# Altium schematic symbol library karman_pcb.SCHLIB: 45 symbols
Pins are listed as number, name and electrical type; pins without a type are passive.

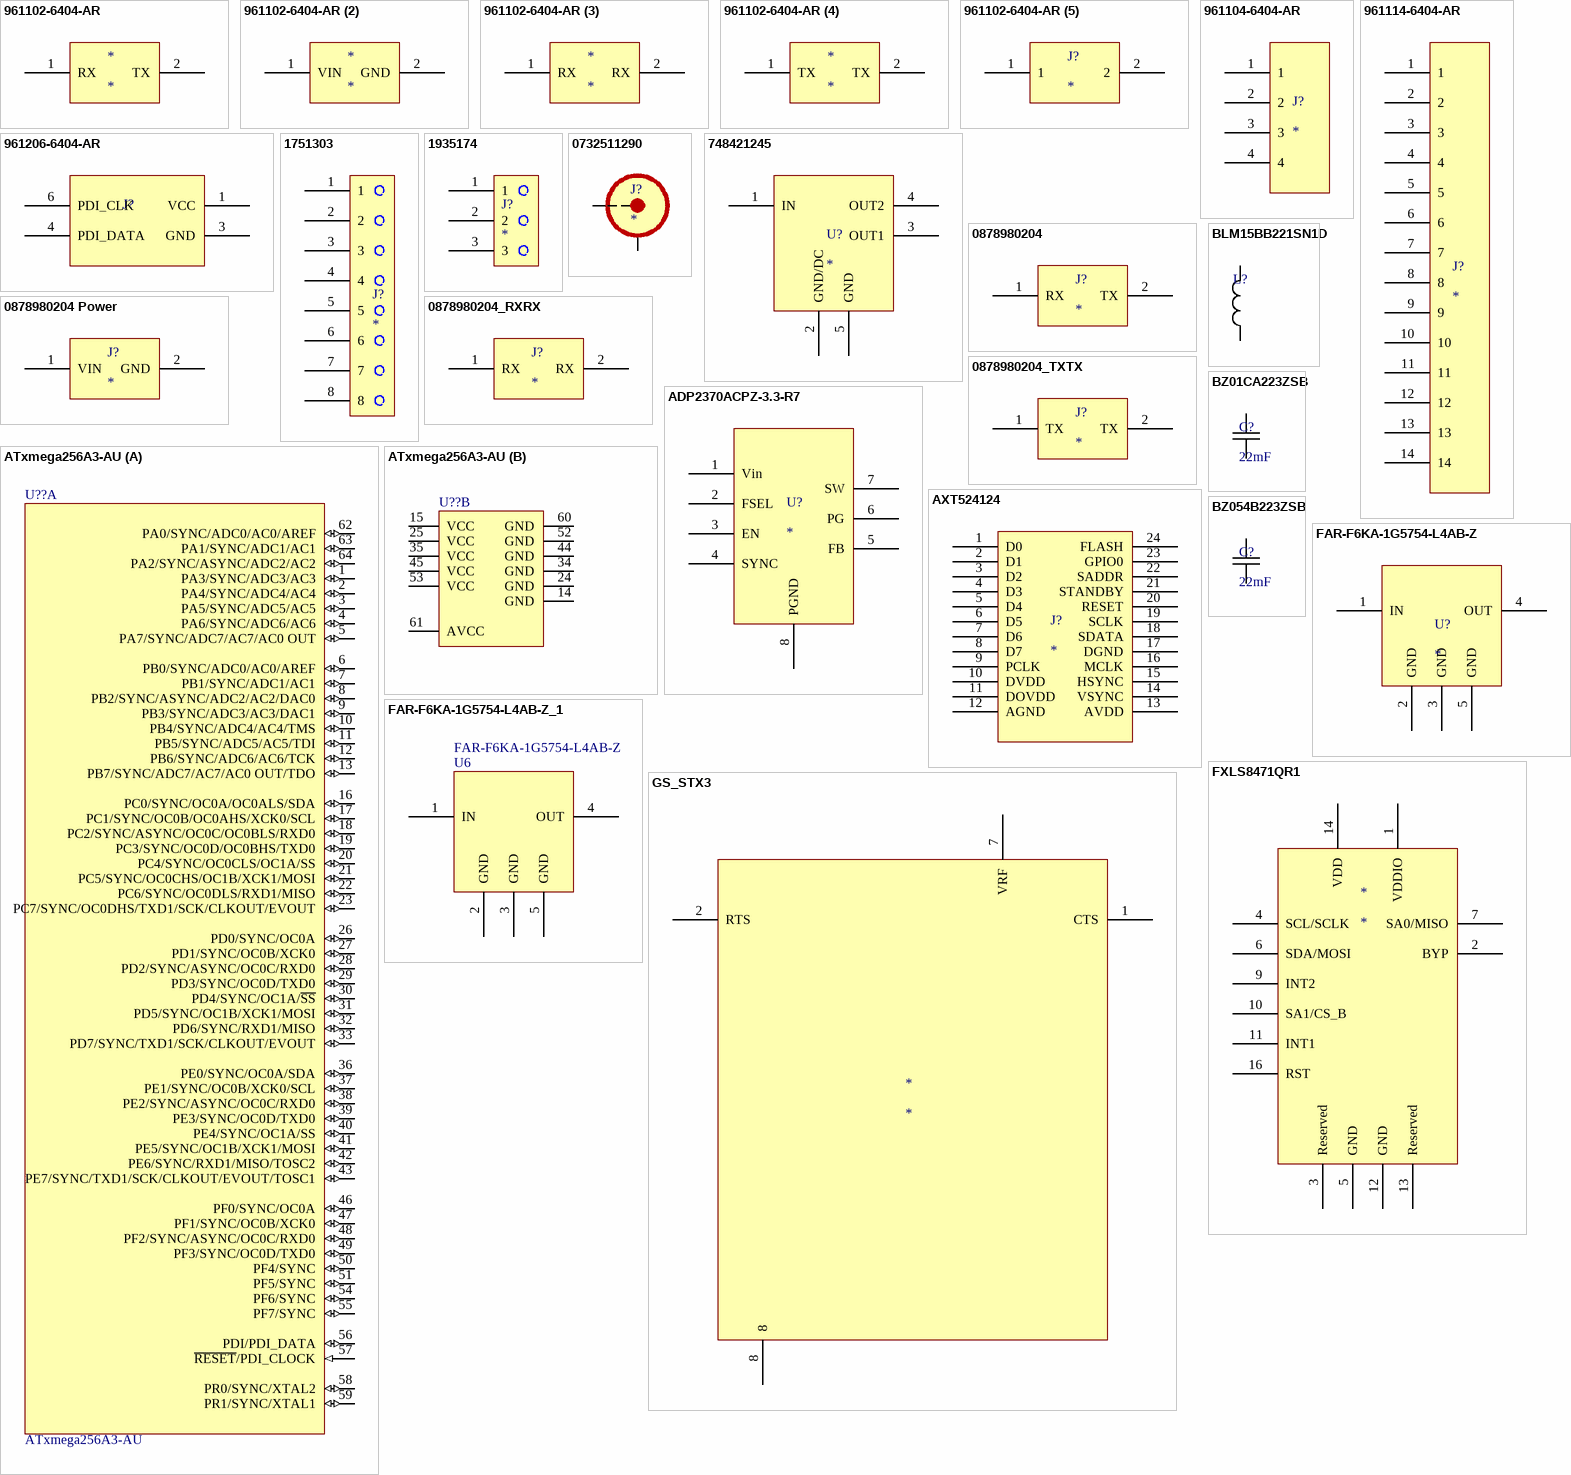
[diagram p0: symbols 961102-6404-AR to GS_STX3]

## 961102-6404-AR
designator *
CONN HEADER VERT SGL 2POS GOLD; Manufacturer: 3M; Manufacturer Part Number: 961102-6404-AR; Connector Type: Header, Unshrouded; Number of Positions: 2; Number of Positions Loaded: All; Pitch: 0.100" (2.54mm); Supplier 1: Digi-Key; RoHS: RoHS Compliant; Category: Connectors, Interconnects; Stock 1: 60000; Pricing 1: 1=0.16, 10=0.15, 25=0.128, 50=0.112, 100=0.104, 250=0.092, 500=0.088, 1000=0.072, 2500=0.066 (USD); Packaging: Bulk; Contact Type: Male Pin; Number of Rows: 1; Row Spacing: -; Contact Mating Length: 0.217" (5.50mm); Mounting Type: Through Hole; Termination: Solder; Fastening Type: -; Features: -; Contact Finish: Gold; Contact Finish Thickness: Flash; Color: Black; ComponentLink1URL: http://multimedia.3m.com/mws/mediawebserver?66666UuZjcFSLXTtNxTElX&VEVuQEcuZgVs6EVs6E666666--; ComponentLink1Description: http://multimedia.3m.com/mws/mediawebserver?66666UuZjcFSLXTtNxTElX&VEVuQEcuZgVs6EVs6E666666--; Supplier Part Number 1: 3M9447-ND
footprint 3M_961102-6X04 (2 Pin Header)
pins: 1 RX, 2 TX

## 961102-6404-AR (2)
designator *
CONN HEADER VERT SGL 2POS GOLD; Manufacturer: 3M; Manufacturer Part Number: 961102-6404-AR; Connector Type: Header, Unshrouded; Number of Positions: 2; Number of Positions Loaded: All; Pitch: 0.100" (2.54mm); Supplier 1: Digi-Key; RoHS: RoHS Compliant; Category: Connectors, Interconnects; Stock 1: 60000; Pricing 1: 1=0.16, 10=0.15, 25=0.128, 50=0.112, 100=0.104, 250=0.092, 500=0.088, 1000=0.072, 2500=0.066 (USD); Packaging: Bulk; Contact Type: Male Pin; Number of Rows: 1; Row Spacing: -; Contact Mating Length: 0.217" (5.50mm); Mounting Type: Through Hole; Termination: Solder; Fastening Type: -; Features: -; Contact Finish: Gold; Contact Finish Thickness: Flash; Color: Black; ComponentLink1URL: http://multimedia.3m.com/mws/mediawebserver?66666UuZjcFSLXTtNxTElX&VEVuQEcuZgVs6EVs6E666666--; ComponentLink1Description: http://multimedia.3m.com/mws/mediawebserver?66666UuZjcFSLXTtNxTElX&VEVuQEcuZgVs6EVs6E666666--; Supplier Part Number 1: 3M9447-ND
pins: 1 VIN, 2 GND

## 961102-6404-AR (3)
designator *
CONN HEADER VERT SGL 2POS GOLD; Manufacturer: 3M; Manufacturer Part Number: 961102-6404-AR; Connector Type: Header, Unshrouded; Number of Positions: 2; Number of Positions Loaded: All; Pitch: 0.100" (2.54mm); Supplier 1: Digi-Key; RoHS: RoHS Compliant; Category: Connectors, Interconnects; Stock 1: 60000; Pricing 1: 1=0.16, 10=0.15, 25=0.128, 50=0.112, 100=0.104, 250=0.092, 500=0.088, 1000=0.072, 2500=0.066 (USD); Packaging: Bulk; Contact Type: Male Pin; Number of Rows: 1; Row Spacing: -; Contact Mating Length: 0.217" (5.50mm); Mounting Type: Through Hole; Termination: Solder; Fastening Type: -; Features: -; Contact Finish: Gold; Contact Finish Thickness: Flash; Color: Black; ComponentLink1URL: http://multimedia.3m.com/mws/mediawebserver?66666UuZjcFSLXTtNxTElX&VEVuQEcuZgVs6EVs6E666666--; ComponentLink1Description: http://multimedia.3m.com/mws/mediawebserver?66666UuZjcFSLXTtNxTElX&VEVuQEcuZgVs6EVs6E666666--; Supplier Part Number 1: 3M9447-ND
pins: 1 RX, 2 RX

## 961102-6404-AR (4)
designator *
CONN HEADER VERT SGL 2POS GOLD; Manufacturer: 3M; Manufacturer Part Number: 961102-6404-AR; Connector Type: Header, Unshrouded; Number of Positions: 2; Number of Positions Loaded: All; Pitch: 0.100" (2.54mm); Supplier 1: Digi-Key; RoHS: RoHS Compliant; Category: Connectors, Interconnects; Stock 1: 60000; Pricing 1: 1=0.16, 10=0.15, 25=0.128, 50=0.112, 100=0.104, 250=0.092, 500=0.088, 1000=0.072, 2500=0.066 (USD); Packaging: Bulk; Contact Type: Male Pin; Number of Rows: 1; Row Spacing: -; Contact Mating Length: 0.217" (5.50mm); Mounting Type: Through Hole; Termination: Solder; Fastening Type: -; Features: -; Contact Finish: Gold; Contact Finish Thickness: Flash; Color: Black; ComponentLink1URL: http://multimedia.3m.com/mws/mediawebserver?66666UuZjcFSLXTtNxTElX&VEVuQEcuZgVs6EVs6E666666--; ComponentLink1Description: http://multimedia.3m.com/mws/mediawebserver?66666UuZjcFSLXTtNxTElX&VEVuQEcuZgVs6EVs6E666666--; Supplier Part Number 1: 3M9447-ND
pins: 1 TX, 2 TX

## 961102-6404-AR (5)
designator J?
CONN HEADER VERT SGL 2POS GOLD; Manufacturer: 3M; Manufacturer Part Number: 961102-6404-AR; Connector Type: Header, Unshrouded; Number of Positions: 2; Number of Positions Loaded: All; Pitch: 0.100" (2.54mm); Supplier 1: Digi-Key; RoHS: RoHS Compliant; Category: Connectors, Interconnects; Stock 1: 60000; Pricing 1: 1=0.16, 10=0.15, 25=0.128, 50=0.112, 100=0.104, 250=0.092, 500=0.088, 1000=0.072, 2500=0.066 (USD); Packaging: Bulk; Contact Type: Male Pin; Number of Rows: 1; Row Spacing: -; Contact Mating Length: 0.217" (5.50mm); Mounting Type: Through Hole; Termination: Solder; Fastening Type: -; Features: -; Contact Finish: Gold; Contact Finish Thickness: Flash; Color: Black; ComponentLink1URL: http://multimedia.3m.com/mws/mediawebserver?66666UuZjcFSLXTtNxTElX&VEVuQEcuZgVs6EVs6E666666--; ComponentLink1Description: http://multimedia.3m.com/mws/mediawebserver?66666UuZjcFSLXTtNxTElX&VEVuQEcuZgVs6EVs6E666666--; Supplier Part Number 1: 3M9447-ND
pins: 1, 2

## 961104-6404-AR
designator J?
CONN HEADER VERT SGL 4POS GOLD; Manufacturer: 3M; Manufacturer Part Number: 961104-6404-AR; Connector Type: Header, Unshrouded; Number of Positions: 4; Number of Positions Loaded: All; Pitch: 0.100" (2.54mm); Supplier 1: Digi-Key; RoHS: RoHS Compliant; Category: Connectors, Interconnects; Stock 1: 17691; Pricing 1: 1=0.33, 10=0.315, 25=0.27, 50=0.2296, 100=0.2205, 250=0.198, 500=0.189, 1000=0.1575, 2500=0.144 (USD); Packaging: Bulk; Contact Type: Male Pin; Number of Rows: 1; Row Spacing: -; Contact Mating Length: 0.217" (5.50mm); Mounting Type: Through Hole; Termination: Solder; Fastening Type: -; Features: -; Contact Finish: Gold; Contact Finish Thickness: Flash; Color: Black; ComponentLink1URL: http://multimedia.3m.com/mws/mediawebserver?66666UuZjcFSLXTtNxTElX&VEVuQEcuZgVs6EVs6E666666--; ComponentLink1Description: http://multimedia.3m.com/mws/mediawebserver?66666UuZjcFSLXTtNxTElX&VEVuQEcuZgVs6EVs6E666666--; Supplier Part Number 1: 3M9449-ND
footprint 961104-6404-AR (3M- 4pos vert header)
pins: 1, 2, 3, 4

## 961114-6404-AR
designator J?
CONN HEADER VERT SGL 14POS GOLD; Manufacturer: 3M; Manufacturer Part Number: 961114-6404-AR; Connector Type: Header, Unshrouded; Number of Positions: 14; Number of Positions Loaded: All; Pitch: 0.100" (2.54mm); Supplier 1: Digi-Key; RoHS: RoHS Compliant; Category: Connectors, Interconnects; Stock 1: 3241; Pricing 1: 1=0.96, 10=0.842, 25=0.792, 50=0.759, 100=0.726, 250=0.66, 500=0.594, 1000=0.528, 2500=0.4785 (USD); Packaging: Bulk; Contact Type: Male Pin; Number of Rows: 1; Row Spacing: -; Contact Mating Length: 0.217" (5.50mm); Mounting Type: Through Hole; Termination: Solder; Fastening Type: -; Features: -; Contact Finish: Gold; Contact Finish Thickness: Flash; Color: Black; ComponentLink1URL: http://multimedia.3m.com/mws/mediawebserver?66666UuZjcFSLXTtNxTElX&VEVuQEcuZgVs6EVs6E666666--; ComponentLink1Description: http://multimedia.3m.com/mws/mediawebserver?66666UuZjcFSLXTtNxTElX&VEVuQEcuZgVs6EVs6E666666--; Supplier Part Number 1: 3M9453-ND
footprint 961114-6404-AR (3M- 14pos vert header)
pins: 1, 2, 3, 4, 5, 6, 7, 8, 9, 10, 11, 12, 13, 14

## 961206-6404-AR
designator J?  (value not drawn)
CONN HEADER VERT DUAL 6POS GOLD; Manufacturer: 3M; Manufacturer Part Number: 961206-6404-AR; Connector Type: Header, Unshrouded; Number of Positions: 6; Number of Positions Loaded: All; Pitch: 0.100" (2.54mm); Supplier 1: Digi-Key; RoHS: RoHS Compliant; Category: Connectors, Interconnects; Stock 1: 8455; Pricing 1: 1=0.42, 10=0.39, 25=0.3512, 50=0.312, 100=0.299, 250=0.273, 500=0.26, 1000=0.2145, 2500=0.195 (USD); Packaging: Bulk; Contact Type: Male Pin; Number of Rows: 2; Row Spacing: 0.100" (2.54mm); Contact Mating Length: 0.217" (5.50mm); Mounting Type: Through Hole; Termination: Solder; Fastening Type: -; Features: -; Contact Finish: Gold; Contact Finish Thickness: Flash; Color: Black; ComponentLink1URL: http://multimedia.3m.com/mws/mediawebserver?66666UuZjcFSLXTtNxTElX&VEVuQEcuZgVs6EVs6E666666--; ComponentLink1Description: http://multimedia.3m.com/mws/mediawebserver?66666UuZjcFSLXTtNxTElX&VEVuQEcuZgVs6EVs6E666666--; Supplier Part Number 1: 3M9459-ND
footprint 961206-6404-AR (3M- 6pos vert 2x3 header)
pins: 1 VCC, 3 GND, 4 PDI_DATA, 6 PDI_CLK

## 1751303
designator J?
CONN TERM BLOCK 8POS 3.5MM; Manufacturer: Phoenix Contact; Manufacturer Part Number: 1751303; Number of Levels: 1; Positions Per Level: 8; Pitch: 0.138" (3.50mm); Mating Orientation: Horizontal with Board; Current: 10A; Voltage: 300V; Wire Gauge: 16-30 AWG; Wire Termination: Screw - Rising Cage Clamp; Torque - Screw: 0.22-0.25 Nm (1.9-2.2 Lb-In); Screw Thread: M2; Supplier 1: Digi-Key; RoHS: RoHS Compliant; Category: Connectors, Interconnects; Stock 1: 1222; Pricing 1: 1=4.43, 10=4.241, 50=4.1254, 100=3.8556, 250=3.54716, 500=3.27726, 1000=3.06181, 2500=2.8728 (USD); Packaging: Bulk; Mounting Type: Through Hole; Features: -; Color: Green; Operating Temperature: -; Housing Material: Polyamide (PA), Nylon; Contact Material - Plating: -; Clamp Material - Plating: -; Screw Material - Plating: -; ComponentLink1URL: http://media.digikey.com/PDF/Data%20Sheets/Phoenix%20Contact%20PDFs/1751303.pdf; ComponentLink1Description: http://media.digikey.com/PDF/Data%20Sheets/Phoenix%20Contact%20PDFs/1751303.pdf; Supplier Part Number 1: 277-5792-ND
footprint 1751303 (TERM BLOCK 8POS 3.5MM)
pins: 1, 2, 3, 4, 5, 6, 7, 8

## 1935174
designator J?
TERM BLOCK PCB 3POS 5.0MM GREEN; Manufacturer: Phoenix Contact; Manufacturer Part Number: 1935174; Number of Levels: 1; Positions Per Level: 3; Pitch: 0.197" (5.00mm); Mating Orientation: Horizontal with Board; Current: 18A; Voltage: 300V; Wire Gauge: 12-26 AWG; Wire Termination: Screw; Torque - Screw: 0.35-0.4 Nm (3.1-3.5 Lb-In); Screw Thread: M2.6; Supplier 1: Digi-Key; RoHS: RoHS Compliant; Category: Connectors, Interconnects; Stock 1: 8560; Pricing 1: 1=0.53, 10=0.506, 50=0.484, 100=0.4708, 250=0.44, 500=0.4048, 1000=0.374 (USD); Packaging: Bulk; Mounting Type: Through Hole; Features: Interlocking (Side); Color: Green; Operating Temperature: -; Housing Material: Polyamide (PA), Nylon; Contact Material - Plating: -; Clamp Material - Plating: -; Screw Material - Plating: -; ComponentLink1URL: http://media.digikey.com/pdf/Data%20Sheets/Phoenix%20Contact%20PDFs/1935174.pdf; ComponentLink1Description: http://media.digikey.com/pdf/Data%20Sheets/Phoenix%20Contact%20PDFs/1935174.pdf; Supplier Part Number 1: 277-1578-ND
pins: 1, 2, 3

## 0732511290
designator J?
CONN SMA JACK EDGE MNT 50 OHM; Manufacturer: Molex, LLC; Manufacturer Part Number: 0732511290; Connector Type: Jack, Female Socket; Contact Termination: Solder; Impedance: 50 Ohm; Frequency - Max: 18GHz; Body Material: Brass; Body Finish: Gold; Center Contact Material: Beryllium Copper; Dielectric Material: Polytetrafluoroethylene (PTFE); Voltage Rating: 500V; Supplier 1: Digi-Key; RoHS: RoHS Compliant; Category: Connectors, Interconnects; Stock 1: 1325; Pricing 1: 1=6.6, 10=6.327, 25=5.7772, 50=5.502, 100=5.2269, 250=4.67672, 500=4.4016, 1000=3.8514, 2500=3.65883 (USD); Packaging: Tray; Connector Style: SMA; Shield Termination: Solder; Mounting Type: Board Edge, End Launch; Panel Mount, Bulkhead; Cable Group: -; Fastening Type: Threaded; Features: -; Housing Color: Gold; Ingress Protection: -; Center Contact Plating: Gold; Operating Temperature: -65°C ~ 165°C; ComponentLink1URL: http://www.molex.com/pdm_docs/sd/732511290_sd.pdf; ComponentLink1Description: http://www.molex.com/pdm_docs/sd/732511290_sd.pdf; Supplier Part Number 1: WM9461-ND
footprint 732511290 (Molex SMA edge mount)
pins: PIN, SHIELD

## 748421245
designator U?
BALUN EMBER351 & 357 0805 SMD; Manufacturer: Wurth Electronics Inc; Manufacturer Part Number: 748421245; Frequency Range: 2.4GHz ~ 2.5GHz; Impedance - Unbalanced/Balanced: 50 / 100 Ohm; Phase Difference: 180° ±10; Insertion Loss (Max): 1.0dB; Supplier 1: Digi-Key; RoHS: RoHS Compliant; Category: RF/IF and RFID; Stock 1: 20266; Pricing 1: 1=2.63, 50=2.3626, 100=2.1875, 500=2.0125, 1000=1.925, 2000=1.8375 (USD); Packaging: Cut Tape (CT); Return Loss (Min): -; Package / Case: 0805 (2012 Metric); Mounting Type: Surface Mount; ComponentLink1URL: http://katalog.we-online.de/pbs/datasheet/748421245.pdf; ComponentLink1Description: http://katalog.we-online.de/pbs/datasheet/748421245.pdf; Supplier Part Number 1: 732-2230-1-ND
footprint 748421245 (WU Balun 748421245)
pins: 1 IN, 2 GND/DC, 3 OUT1, 4 OUT2, 5 GND

## 0878980204
designator J?
CONN BREAKAWAY SMD HDR 2POS; Manufacturer: Molex, LLC; Manufacturer Part Number: 0878980204; Connector Type: Header, Unshrouded, Breakaway; Number of Positions: 2; Number of Positions Loaded: All; Pitch: 0.100" (2.54mm); Supplier 1: Digi-Key; RoHS: RoHS Compliant; Category: Connectors, Interconnects; Stock 1: 4548; Pricing 1: 1=0.47, 10=0.438, 25=0.394, 50=0.3502, 100=0.3356, 250=0.3064, 500=0.2918, 1000=0.24074, 2500=0.21885 (USD); Packaging: Tray; Contact Type: Male Pin; Number of Rows: 1; Row Spacing: -; Contact Mating Length: 0.230" (5.84mm); Mounting Type: Surface Mount; Termination: Solder; Fastening Type: -; Features: -; Contact Finish: Gold; Contact Finish Thickness: 15µin (0.38µm); Color: Black; ComponentLink1URL: http://www.molex.com/pdm_docs/sd/878980204_sd.pdf; ComponentLink1Description: http://www.molex.com/pdm_docs/sd/878980204_sd.pdf; Supplier Part Number 1: WM9852-ND
pins: 1 RX, 2 TX

## 0878980204 Power
designator J?
CONN BREAKAWAY SMD HDR 2POS; Manufacturer: Molex, LLC; Manufacturer Part Number: 0878980204; Connector Type: Header, Unshrouded, Breakaway; Number of Positions: 2; Number of Positions Loaded: All; Pitch: 0.100" (2.54mm); Supplier 1: Digi-Key; RoHS: RoHS Compliant; Category: Connectors, Interconnects; Stock 1: 4806; Pricing 1: 1=0.47, 10=0.438, 25=0.394, 50=0.3502, 100=0.3356, 250=0.3064, 500=0.2918, 1000=0.24074, 2500=0.21885 (USD); Packaging: Tray; Contact Type: Male Pin; Number of Rows: 1; Row Spacing: -; Contact Mating Length: 0.230" (5.84mm); Mounting Type: Surface Mount; Termination: Solder; Fastening Type: -; Features: -; Contact Finish: Gold; Contact Finish Thickness: 15µin (0.38µm); Color: Black; ComponentLink1URL: http://www.molex.com/pdm_docs/sd/878980204_sd.pdf; ComponentLink1Description: http://www.molex.com/pdm_docs/sd/878980204_sd.pdf; Supplier Part Number 1: WM9852-ND
pins: 1 VIN, 2 GND

## 0878980204_RXRX
designator J?
CONN BREAKAWAY SMD HDR 2POS; Manufacturer: Molex, LLC; Manufacturer Part Number: 0878980204; Connector Type: Header, Unshrouded, Breakaway; Number of Positions: 2; Number of Positions Loaded: All; Pitch: 0.100" (2.54mm); Supplier 1: Digi-Key; RoHS: RoHS Compliant; Category: Connectors, Interconnects; Stock 1: 4548; Pricing 1: 1=0.47, 10=0.438, 25=0.394, 50=0.3502, 100=0.3356, 250=0.3064, 500=0.2918, 1000=0.24074, 2500=0.21885 (USD); Packaging: Tray; Contact Type: Male Pin; Number of Rows: 1; Row Spacing: -; Contact Mating Length: 0.230" (5.84mm); Mounting Type: Surface Mount; Termination: Solder; Fastening Type: -; Features: -; Contact Finish: Gold; Contact Finish Thickness: 15µin (0.38µm); Color: Black; ComponentLink1URL: http://www.molex.com/pdm_docs/sd/878980204_sd.pdf; ComponentLink1Description: http://www.molex.com/pdm_docs/sd/878980204_sd.pdf; Supplier Part Number 1: WM9852-ND
pins: 1 RX, 2 RX

## 0878980204_TXTX
designator J?
CONN BREAKAWAY SMD HDR 2POS; Manufacturer: Molex, LLC; Manufacturer Part Number: 0878980204; Connector Type: Header, Unshrouded, Breakaway; Number of Positions: 2; Number of Positions Loaded: All; Pitch: 0.100" (2.54mm); Supplier 1: Digi-Key; RoHS: RoHS Compliant; Category: Connectors, Interconnects; Stock 1: 4548; Pricing 1: 1=0.47, 10=0.438, 25=0.394, 50=0.3502, 100=0.3356, 250=0.3064, 500=0.2918, 1000=0.24074, 2500=0.21885 (USD); Packaging: Tray; Contact Type: Male Pin; Number of Rows: 1; Row Spacing: -; Contact Mating Length: 0.230" (5.84mm); Mounting Type: Surface Mount; Termination: Solder; Fastening Type: -; Features: -; Contact Finish: Gold; Contact Finish Thickness: 15µin (0.38µm); Color: Black; ComponentLink1URL: http://www.molex.com/pdm_docs/sd/878980204_sd.pdf; ComponentLink1Description: http://www.molex.com/pdm_docs/sd/878980204_sd.pdf; Supplier Part Number 1: WM9852-ND
pins: 1 TX, 2 TX

## ADP2370ACPZ-3.3-R7
designator U?
IC REG BCK 3.3V 0.8A SYNC 8LFCSP; Manufacturer: Analog Devices Inc.; Manufacturer Part Number: ADP2370ACPZ-3.3-R7; Function: Step-Down; Output Configuration: Positive; Topology: Buck; Output Type: Fixed; Number of Outputs: 1; Voltage - Input (Min): 3.2V; Voltage - Input (Max): 15V; Current - Output: 800mA; Frequency - Switching: 600kHz ~ 1.2MHz; Synchronous Rectifier: Yes; Supplier 1: Digi-Key; RoHS: RoHS Compliant; Category: Integrated Circuits (ICs); Stock 1: 1716; Pricing 1: 1=3.63, 10=3.259, 100=2.6733, 500=2.2743 (USD); Packaging: Cut Tape (CT); Voltage - Output (Min/Fixed): 3.3V; Voltage - Output (Max): -; Operating Temperature: -40°C ~ 85°C (TA); Mounting Type: Surface Mount; Package / Case: 8-WFDFN Exposed Pad, CSP; Supplier Device Package: 8-LFCSP-WD (3x3); ComponentLink1URL: http://www.analog.com/media/en/technical-documentation/data-sheets/ADP2370_2371.pdf; ComponentLink1Description: http://www.analog.com/media/en/technical-documentation/data-sheets/ADP2370_2371.pdf; Supplier Part Number 1: ADP2370ACPZ-3.3-R7CT-ND
pins: 1 Vin, 2 FSEL, 3 EN, 4 SYNC, 5 FB, 6 PG, 7 SW, 8 PGND

## ATxmega256A3-AU
designator U??
8/16-bit AVR XMEGA A3 Microcontroller, 1.6-3.6V, 256KB + 8KB Flash, 4KB EEPROM, 16KB SRAM, 64-pin TQFP, Industrial Grade (-40°C to 85°C), Pb-Free; Published: 1-Apr-2010; DatasheetVersion: revQ, Feb-2010; PackageVersion: revB, Oct-2001; PackageReference: 64A; Publisher: Altium Limited; PackageDescription: 64-Pin Plastic Thin Profile Quad Flat Pack, 14 x 14 x 1.0 mm Body, 0.8 mm Pitch (TQFP); Supplier 1: Digi-Key; Supplier Part Number 1: ATXMEGA256A3-AU-ND; Supplier 2: Farnell; Supplier Part Number 2: 1748554; Supplier 3: Mouser; Supplier Part Number 3: 556-ATXMEGA256A3-AU; Code_JEDEC: MS-026-AEB; ComponentLink1Description: Manufacturer Link; ComponentLink1URL: http://www.atmel.com/products/avr/default.asp?; ComponentLink2Description: ATxmega64A3/128A3/192A3/256A3 Datasheet; ComponentLink2URL: http://www.atmel.com/dyn/resources/prod_documents/doc8068.pdf; ComponentLink3Description: Atmel.com Home; ComponentLink3URL: http://www.atmel.com
footprint 64A_N (Thin QFP, 64-Leads, Body 14x14mm, Pitch 0.8mm, IPC Medium Density)
footprint 64A_L (Thin QFP, 64-Leads, Body 14x14mm, Pitch 0.8mm, IPC High Density)
footprint 64A_M (Thin QFP, 64-Leads, Body 14x14mm, Pitch 0.8mm, IPC Low Density)
part A pins: 1 PA3/SYNC/ADC3/AC3 (io), 2 PA4/SYNC/ADC4/AC4 (io), 3 PA5/SYNC/ADC5/AC5 (io), 4 PA6/SYNC/ADC6/AC6 (io), 5 PA7/SYNC/ADC7/AC7/AC0 OUT (io), 6 PB0/SYNC/ADC0/AC0/AREF (io), 7 PB1/SYNC/ADC1/AC1 (io), 8 PB2/SYNC/ASYNC/ADC2/AC2/DAC0 (io), 9 PB3/SYNC/ADC3/AC3/DAC1 (io), 10 PB4/SYNC/ADC4/AC4/TMS (io), 11 PB5/SYNC/ADC5/AC5/TDI (io), 12 PB6/SYNC/ADC6/AC6/TCK (io), 13 PB7/SYNC/ADC7/AC7/AC0 OUT/TDO (io), 16 PC0/SYNC/OC0A/OC0ALS/SDA (io), 17 PC1/SYNC/OC0B/OC0AHS/XCK0/SCL (io), 18 PC2/SYNC/ASYNC/OC0C/OC0BLS/RXD0 (io), 19 PC3/SYNC/OC0D/OC0BHS/TXD0 (io), 20 PC4/SYNC/OC0CLS/OC1A/SS (io), 21 PC5/SYNC/OC0CHS/OC1B/XCK1/MOSI (io), 22 PC6/SYNC/OC0DLS/RXD1/MISO (io), 23 PC7/SYNC/OC0DHS/TXD1/SCK/CLKOUT/EVOUT (io), 26 PD0/SYNC/OC0A (io), 27 PD1/SYNC/OC0B/XCK0 (io), 28 PD2/SYNC/ASYNC/OC0C/RXD0 (io), 29 PD3/SYNC/OC0D/TXD0 (io), 30 PD4/SYNC/OC1A/~{SS} (io), 31 PD5/SYNC/OC1B/XCK1/MOSI (io), 32 PD6/SYNC/RXD1/MISO (io), 33 PD7/SYNC/TXD1/SCK/CLKOUT/EVOUT (io), 36 PE0/SYNC/OC0A/SDA (io), 37 PE1/SYNC/OC0B/XCK0/SCL (io), 38 PE2/SYNC/ASYNC/OC0C/RXD0 (io), 39 PE3/SYNC/OC0D/TXD0 (io), 40 PE4/SYNC/OC1A/SS (io), 41 PE5/SYNC/OC1B/XCK1/MOSI (io), 42 PE6/SYNC/RXD1/MISO/TOSC2 (io), 43 PE7/SYNC/TXD1/SCK/CLKOUT/EVOUT/TOSC1 (io), 46 PF0/SYNC/OC0A (io), 47 PF1/SYNC/OC0B/XCK0 (io), 48 PF2/SYNC/ASYNC/OC0C/RXD0 (io), 49 PF3/SYNC/OC0D/TXD0 (io), 50 PF4/SYNC (io), 51 PF5/SYNC (io), 54 PF6/SYNC (io), 55 PF7/SYNC (io), 56 PDI/PDI_DATA (io), 57 ~{RESET}/PDI_CLOCK (in), 58 PR0/SYNC/XTAL2 (io), 59 PR1/SYNC/XTAL1 (io), 62 PA0/SYNC/ADC0/AC0/AREF (io), 63 PA1/SYNC/ADC1/AC1 (io), 64 PA2/SYNC/ASYNC/ADC2/AC2 (io)
part B pins: 14 GND (power), 15 VCC (power), 24 GND (power), 25 VCC (power), 34 GND (power), 35 VCC (power), 44 GND (power), 45 VCC (power), 52 GND (power), 53 VCC (power), 60 GND (power), 61 AVCC (power)

## AXT524124
designator J?
CONN SOCKET F4S .4MM 24POS SMD; Manufacturer: Panasonic Electric Works; Manufacturer Part Number: AXT524124; Connector Type: Socket, Outer Shroud Contacts; Number of Positions: 24; Pitch: 0.016" (0.40mm); Mated Stacking Heights: 1mm; Supplier 1: Digi-Key; RoHS: RoHS Compliant; Category: Connectors, Interconnects; Stock 1: 1416; Pricing 1: 1=2.29, 10=1.901, 100=1.408, 250=1.2352, 500=1.1264 (USD); Packaging: Cut Tape (CT); Number of Rows: 2; Mounting Type: Surface Mount; Features: Solder Retention; Contact Finish: Gold; Contact Finish Thickness: -; Height Above Board: 0.038" (0.97mm); ComponentLink1URL: http://www3.panasonic.biz/ac/e_download/control/connector/base-fpc/catalog/con_eng_f4s.pdf; ComponentLink1Description: http://www3.panasonic.biz/ac/e_download/control/connector/base-fpc/catalog/con_eng_f4s.pdf; Supplier Part Number 1: 255-2411-1-ND
footprint AXT524124 (panasonic 24 pos header)
pins: 1 D0, 2 D1, 3 D2, 4 D3, 5 D4, 6 D5, 7 D6, 8 D7, 9 PCLK, 10 DVDD, 11 DOVDD, 12 AGND, 13 AVDD, 14 VSYNC, 15 HSYNC, 16 MCLK, 17 DGND, 18 SDATA, 19 SCLK, 20 RESET, 21 STANDBY, 22 SADDR, 23 GPIO0, 24 FLASH

## BLM15BB221SN1D
designator L?  (value not drawn)
FERRITE CHIP 220 OHM 200MA 0402; Manufacturer: Murata Electronics North America; Impedance @ Frequency: 220 Ohm @ 100MHz; DC Resistance (DCR): 800 mOhm Max; Filter Type: Differential Mode - Single; Supplier 1: Digi-Key; Manufacturer Part Number: BLM15BB221SN1D; RoHS: RoHS Compliant; Category: Filters; Stock 1: 37626; Pricing 1: 1=0.1, 10=0.083, 50=0.0544, 100=0.047, 250=0.03712, 500=0.03136, 1000=0.0264, 5000=0.02351 (USD); Packaging: Cut Tape (CT); Current Rating: 200mA; Package / Case: 0402 (1005 Metric); Mounting Type: Surface Mount; Height (Max): 0.022" (0.55mm); Size / Dimension: 0.039" L x 0.020" W (1.00mm x 0.50mm); ComponentLink1URL: http://search.murata.co.jp/Ceramy/image/img/PDF/ENG/L0110S0100BLM15B.pdf; ComponentLink1Description: http://search.murata.co.jp/Ceramy/image/img/PDF/ENG/L0110S0100BLM15B.pdf; Supplier Part Number 1: 490-5190-1-ND
footprint BLM15 (Chip Ferrite Bead, 0402)
pins: 1, 2

## BZ01CA223ZSB
designator C?, comment 22mF
CAP 22MF -20% +80% 12V SMD; Manufacturer: AVX Corporation; Manufacturer Part Number: BZ01CA223ZSB; Tolerance: -20%, +80%; ESR (Equivalent Series Resistance): 350 mOhm; Lifetime @ Temp.: 1000 Hrs @ 70°C; Supplier 1: Digi-Key; RoHS: RoHS Compliant; Category: Capacitors; Stock 1: 220; Pricing 1: 1=15, 10=14.25, 100=11.25, 250=10.5, 500=9.975, 1000=9.375, 5000=9 (USD); Packaging: Tray; Capacitance: 22mF; Voltage - Rated: 12V; Termination: Solder Pads; Mounting Type: Surface Mount; Package / Case: BZ01, 3 Lead; Lead Spacing: -; Size / Dimension: 1.102" L x 0.669" W (28.00mm x 17.00mm); Height - Seated (Max): 0.299" (7.60mm); Operating Temperature: -20°C ~ 70°C; ComponentLink1URL: http://www.avx.com/docs/catalogs/bestcap.pdf; ComponentLink1Description: http://www.avx.com/docs/catalogs/bestcap.pdf; Supplier Part Number 1: 478-3523-ND
footprint AVX_BZ01 (AVX BZ01 Supercapacitor, 3-Leads)
pins: 1, 2

## BZ054B223ZSB
designator C?, comment 22mF
CAP 22MF -20% +80% 4.5V SMD; Manufacturer: AVX Corporation; Manufacturer Part Number: BZ054B223ZSB; Tolerance: -20%, +80%; ESR (Equivalent Series Resistance): 170 mOhm; Lifetime @ Temp.: 1000 Hrs @ 70°C; Supplier 1: Digi-Key; RoHS: RoHS Compliant; Category: Capacitors; Stock 1: 0; Pricing 1: 1000=5.4825 (USD); Packaging: Tray; Capacitance: 22mF; Voltage - Rated: 4.5V; Termination: Solder Tab (s); Mounting Type: Surface Mount; Package / Case: BZ05, 3 Lead; Lead Spacing: -; Size / Dimension: 0.787" L x 0.591" W (20.00mm x 15.00mm); Height - Seated (Max): 0.083" (2.10mm); Operating Temperature: -20°C ~ 70°C; ComponentLink1URL: http://www.avx.com/docs/catalogs/bestcap.pdf; ComponentLink1Description: http://www.avx.com/docs/catalogs/bestcap.pdf; Supplier Part Number 1: 478-3519-ND
pins: 1, 2

## FAR-F6KA-1G5754-L4AB-Z
designator U?
FILTER SAW 1.5754GHZ GPS SMD; Manufacturer: Taiyo Yuden; Manufacturer Part Number: FAR-F6KA-1G5754-L4AB-Z; Frequency: 1.575GHz Center; Bandwidth: 2MHz; Filter Type: Band Pass; Insertion Loss: 0.44dB; Supplier 1: Digi-Key; RoHS: RoHS Compliant; Category: Filters; Stock 1: 8970; Pricing 1: 1=0.54, 10=0.512, 25=0.4952, 50=0.4042, 100=0.363, 250=0.33, 500=0.3135, 1000=0.2805 (USD); Packaging: Cut Tape (CT); Applications: GPS; Package / Case: 5-SMD, No Lead; Mounting Type: Surface Mount; Height (Max): 0.020" (0.50mm); Size / Dimension: 0.055" L x 0.039" W (1.40mm x 1.00mm); ComponentLink1URL: http://www.yuden.co.jp/productdata/sheet/L4AB.pdf; ComponentLink1Description: http://www.yuden.co.jp/productdata/sheet/L4AB.pdf; Supplier Part Number 1: 587-2995-1-ND
footprint TY_FAR-F6KA-1G5754-L4AB (Taiyo Yuden Saw Filter)
pins: 1 IN, 2 GND, 3 GND, 4 OUT, 5 GND

## FAR-F6KA-1G5754-L4AB-Z_1
designator U6, comment FAR-F6KA-1G5754-L4AB-Z
FILTER SAW 1.5754GHZ GPS SMD; Manufacturer: Taiyo Yuden; Frequency: 1.575GHz Center; Bandwidth: 2MHz; Filter Type: Band Pass; Insertion Loss: 0.44dB; Supplier 1: Digi-Key; Manufacturer Part Number: FAR-F6KA-1G5754-L4AB-Z; RoHS: RoHS Compliant; Category: Filters; Stock 1: 8970; Pricing 1: 1=0.54, 10=0.512, 25=0.4952, 50=0.4042, 100=0.363, 250=0.33, 500=0.3135, 1000=0.2805 (USD); Packaging: Cut Tape (CT); Applications: GPS; Package / Case: 5-SMD, No Lead; Mounting Type: Surface Mount; Height (Max): 0.020" (0.50mm); Size / Dimension: 0.055" L x 0.039" W (1.40mm x 1.00mm); ComponentLink1URL: http://www.yuden.co.jp/productdata/sheet/L4AB.pdf; ComponentLink1Description: http://www.yuden.co.jp/productdata/sheet/L4AB.pdf; Supplier Part Number 1: 587-2995-1-ND
footprint TY_FAR-F6KA-1G5754-L4AB (Taiyo Yuden Saw Filter)
pins: 1 IN, 2 GND, 3 GND, 4 OUT, 5 GND

## FXLS8471QR1
designator *
ACCELEROMETER LOW G 3-AXIS DFN; Manufacturer: Freescale Semiconductor; Manufacturer Part Number: FXLS8471QR1; Axis: X, Y, Z; Acceleration Range: ±2g, 4g, 8g; Voltage - Supply: 1.95 V ~ 3.6 V; Output Type: SPI; Bandwidth: 1.5kHz; Interface: I²C, SPI; Supplier 1: Digi-Key; RoHS: RoHS Compliant; Category: Sensors, Transducers; Stock 1: 2987; Pricing 1: 1=1.99, 10=1.775, 25=1.6684, 100=1.5975, 250=1.52652, 500=1.42 (USD); Packaging: Cut Tape (CT); Sensitivity: -; Mounting Type: Surface Mount; Package / Case: 16-VFQFN; Supplier Device Package: 16-QFN (3x3); ComponentLink1URL: http://cache.freescale.com/files/sensors/doc/data_sheet/FXLS8471Q.pdf; ComponentLink1Description: http://cache.freescale.com/files/sensors/doc/data_sheet/FXLS8471Q.pdf; Supplier Part Number 1: FXLS8471QR1CT-ND
footprint 3 FXLS8471QR1
pins: 1 VDDIO, 2 BYP, 3 Reserved, 4 SCL/SCLK, 5 GND, 6 SDA/MOSI, 7 SA0/MISO, 8 N/C hidden, 9 INT2, 10 SA1/CS_B, 11 INT1, 12 GND, 13 Reserved, 14 VDD, 15 N/C hidden, 16 RST

## GS_STX3
designator *
pins: 1 CTS, 2 RTS, 7 VRF, 8

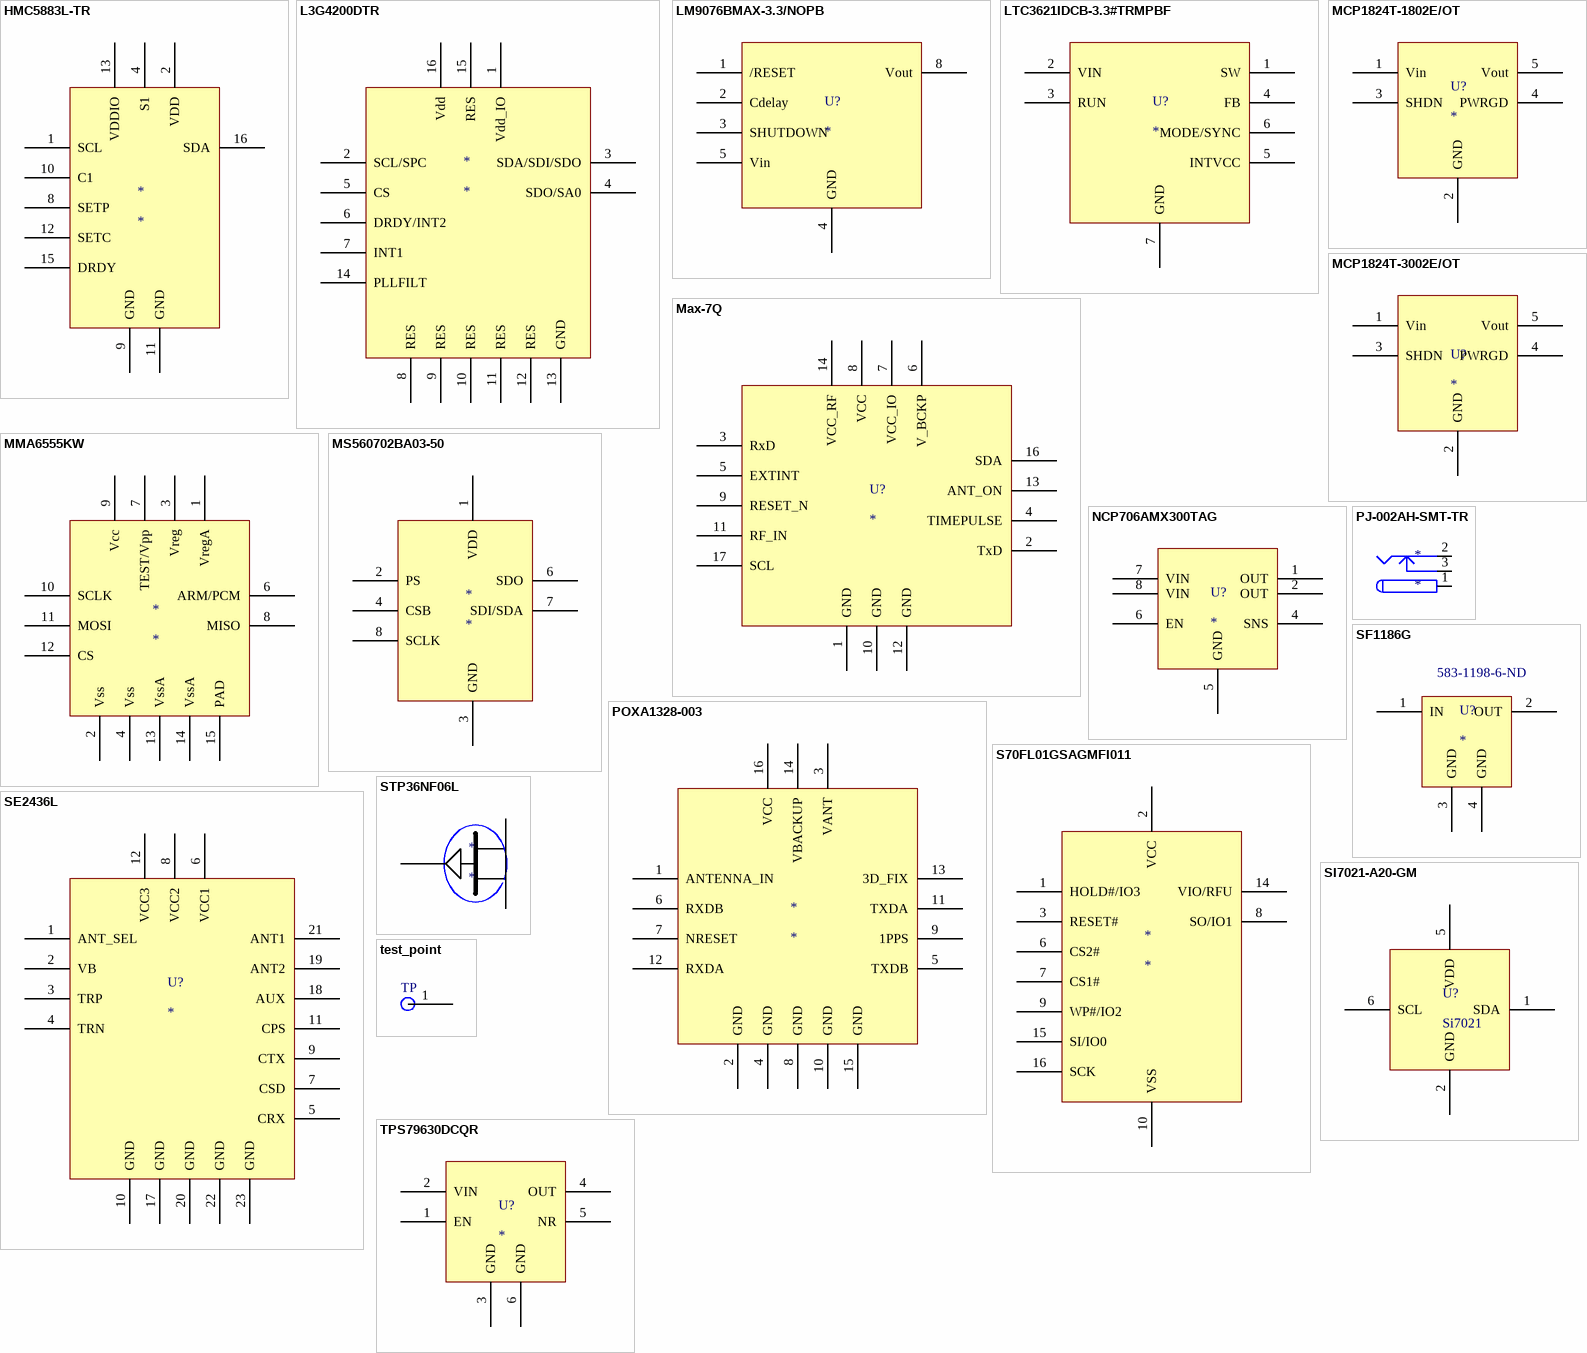
[diagram p1: symbols HMC5883L-TR to TPS79630DCQR]

## HMC5883L-TR
designator *
IC COMPASS 3 AXIS I2C 16LCC SMD; Manufacturer: Honeywell Microelectronics & Precision Sensors; Manufacturer Part Number: HMC5883L-TR; Sensing Range: ±8G; Voltage - Supply: 2.16 V ~ 3.6 V; Current - Supply: 100µA; Output Type: I²C; Supplier 1: Digi-Key; RoHS: RoHS Compliant; Category: Sensors, Transducers; Stock 1: 15448; Pricing 1: 1=3.3, 10=2.258, 25=2.0316, 50=1.902, 100=1.7963, 250=1.683, 500=1.6104, 1000=1.5477 (USD); Packaging: Cut Tape (CT); Type: Compass - Three Axis; Current - Output (Max): -; Features: Compass - Three Axis; Operating Temperature: -30°C ~ 85°C; Package / Case: 16-LCC; Supplier Device Package: 16-LCC; ComponentLink1URL: http://www51.honeywell.com/aero/common/documents/myaerospacecatalog-documents/Defense_Brochures-documents/HMC5883L_3-Axis_Digital_Compass_IC.pdf; ComponentLink1Description: http://www51.honeywell.com/aero/common/documents/myaerospacecatalog-documents/Defense_Brochures-documents/HMC5883L_3-Axis_Digital_Compass_IC.pdf; Supplier Part Number 1: 342-1082-1-ND
footprint 5 HMC5883L-TR (QFN, 16-Leads, Body 3.00x3.00mm, Pitch 0.50mm, IPC Low Density)
pins: 1 SCL, 2 VDD, 4 S1, 8 SETP, 9 GND, 10 C1, 11 GND, 12 SETC, 13 VDDIO, 15 DRDY, 16 SDA

## L3G4200DTR
designator *
IC GYROSCOPE MEMS 3AXIS LP 16LGA; Manufacturer: STMicroelectronics; Manufacturer Part Number: L3G4200DTR; Range °/s: ±250°/s, ±500°/s, ±2000°/s; Sensitivity: 70m°/s, 17.5m°/s, 8.75m°/s; Typical Bandwidth: 800Hz, 400Hz, 200Hz, 100Hz; Voltage - Supply: 2.4 V ~ 3.6 V; Current - Supply: 6.1mA; Output Type: I²C, SPI; Supplier 1: Digi-Key; RoHS: RoHS Compliant; Category: Sensors, Transducers; Stock 1: 5355; Pricing 1: 1=5.28, 10=4.25, 100=3.77, 250=3.48, 500=3.13, 1000=2.64001 (USD); Operating Temperature: -40°C ~ 85°C; Package / Case: 16-TFLGA; Supplier Device Package: 16-LGA (4x4); ComponentLink1URL: http://www.st.com/web/en/resource/technical/document/datasheet/CD00265057.pdf; ComponentLink1Description: http://www.st.com/web/en/resource/technical/document/datasheet/CD00265057.pdf; Supplier Part Number 1: 497-11071-1-ND
footprint 4 L3G4200D (QFN, 16-Leads, Body 4.00x4.00mm, Pitch 0.65mm, IPC Low Density)
pins: 1 Vdd_IO, 2 SCL/SPC, 3 SDA/SDI/SDO, 4 SDO/SA0, 5 CS, 6 DRDY/INT2, 7 INT1, 8 RES, 9 RES, 10 RES, 11 RES, 12 RES, 13 GND, 14 PLLFILT, 15 RES, 16 Vdd

## LM9076BMAX-3.3/NOPB
designator U?
IC REG LDO 3.3V 0.15A 8SOIC; Manufacturer: Texas Instruments; Manufacturer Part Number: LM9076BMAX-3.3/NOPB; Regulator Topology: Positive Fixed; Current - Output: 150mA; Voltage - Dropout (Typical): 0.15V @ 150mA; Number of Regulators: 1; Voltage - Input: 5.35 V ~ 40 V; Supplier 1: Digi-Key; RoHS: RoHS Compliant; Category: Integrated Circuits (ICs); Stock 1: 0; Pricing 1: 2500=0.878 (USD); Packaging: Tape & Reel (TR); Voltage - Output: 3.3V; Current - Limit (Min): -; Operating Temperature: -40°C ~ 125°C; Mounting Type: Surface Mount; Package / Case: 8-SOIC (0.154", 3.90mm Width); Supplier Device Package: 8-SOIC; ComponentLink1URL: http://www.ti.com/lit/ds/symlink/lm9076.pdf; ComponentLink1Description: http://www.ti.com/lit/ds/symlink/lm9076.pdf; Supplier Part Number 1: LM9076BMAX-3.3/NOPBTR-ND
pins: 1 /RESET, 2 Cdelay, 3 SHUTDOWN, 4 GND, 5 Vin, 8 Vout

## LTC3621IDCB-3.3#TRMPBF
designator U?
IC REG BUCK 3.3V 1A SYNC 6DFN; Manufacturer: Linear Technology; Manufacturer Part Number: LTC3621IDCB-3.3#TRMPBF; Function: Step-Down; Output Configuration: Positive; Output Type: Fixed; Number of Outputs: 1; Voltage - Input (Min): 2.7V; Voltage - Input (Max): 17V; Frequency - Switching: 1MHz; Synchronous Rectifier: Yes; Supplier 1: Digi-Key; RoHS: RoHS Compliant; Category: Integrated Circuits (ICs); Stock 1: 490; Pricing 1: 1=6.84, 25=6.1052, 100=5.4948 (USD); Packaging: Cut Tape (CT); Topology: Buck; Voltage - Output (Min/Fixed): 3.3V; Voltage - Output (Max): -; Current - Output: 1A; Operating Temperature: -40°C ~ 125°C (TJ); Mounting Type: Surface Mount; Package / Case: 6-WFDFN Exposed Pad; Supplier Device Package: 6-DFN (2x3); ComponentLink1URL: http://www.linear.com/docs/42954; ComponentLink1Description: http://www.linear.com/docs/42954; Supplier Part Number 1: LTC3621IDCB-3.3#TRMPBFCT-ND
footprint 29 LTC3621IDCB-3.3 (SON, 6-Leads, Body 2.00x3.00mm, Pitch 0.50mm, Thermal Pad 1.35x1.65mm, IPC Low Density)
pins: 1 SW, 2 VIN, 3 RUN, 4 FB, 5 INTVCC, 6 MODE/SYNC, 7 GND

## Max-7Q
designator U?
MAX-7Q ublox GPS chip
footprint 11 MAX-7Q (LCC, 18-Pins, Body 9.70x10.35mmx2.70mm, Pitch 1.10mm, IPC Low Density)
pins: 1 GND, 2 TxD, 3 RxD, 4 TIMEPULSE, 5 EXTINT, 6 V_BCKP, 7 VCC_IO, 8 VCC, 9 RESET_N, 10 GND, 11 RF_IN, 12 GND, 13 ANT_ON, 14 VCC_RF, 16 SDA, 17 SCL

## MCP1824T-1802E/OT
designator U?
IC REG LDO 1.8V 0.3A SOT23-5; Manufacturer: Microchip Technology; Manufacturer Part Number: MCP1824T-1802E/OT; Regulator Topology: Positive Fixed; Current - Output: 300mA; Voltage - Dropout (Typical): 0.2V @ 300mA; Number of Regulators: 1; Voltage - Input: 2.1 V ~ 6 V; Supplier 1: Digi-Key; RoHS: RoHS Compliant; Category: Integrated Circuits (ICs); Stock 1: 10644; Pricing 1: 1=0.5, 10=0.42, 25=0.35, 100=0.32 (USD); Packaging: Cut Tape (CT); Voltage - Output: 1.8V; Current - Limit (Min): -; Operating Temperature: -40°C ~ 125°C; Mounting Type: Surface Mount; Package / Case: SC-74A, SOT-753; Supplier Device Package: SOT-23-5; ComponentLink1URL: http://www.microchip.com/mymicrochip/filehandler.aspx?ddocname=en533257; ComponentLink1Description: http://www.microchip.com/mymicrochip/filehandler.aspx?ddocname=en533257; Supplier Part Number 1: MCP1824T-1802E/OTCT-ND
footprint 26-27 MCP1824T(-3002E/OT)(-1802E/OT) (SOT23, 5-Leads, Body 2.90x2.70mm, Pitch 0.95mm, IPC Low Density)
pins: 1 Vin, 2 GND, 3 SHDN, 4 PWRGD, 5 Vout

## MCP1824T-3002E/OT
designator U?
IC REG LDO 3V 0.3A SOT23-5; Manufacturer: Microchip Technology; Manufacturer Part Number: MCP1824T-3002E/OT; Regulator Topology: Positive Fixed; Current - Output: 300mA; Voltage - Dropout (Typical): 0.2V @ 300mA; Number of Regulators: 1; Voltage - Input: Up to 6V; Supplier 1: Digi-Key; RoHS: RoHS Compliant; Category: Integrated Circuits (ICs); Stock 1: 1155; Pricing 1: 1=0.5, 10=0.42, 25=0.35, 100=0.32 (USD); Packaging: Cut Tape (CT); Voltage - Output: 3V; Current - Limit (Min): -; Operating Temperature: -40°C ~ 125°C; Mounting Type: Surface Mount; Package / Case: SC-74A, SOT-753; Supplier Device Package: SOT-23-5; ComponentLink1URL: http://www.microchip.com/mymicrochip/filehandler.aspx?ddocname=en533257; ComponentLink1Description: http://www.microchip.com/mymicrochip/filehandler.aspx?ddocname=en533257; Supplier Part Number 1: MCP1824T-3002E/OTCT-ND
footprint 26-27 MCP1824T(-3002E/OT)(-1802E/OT) (SOT23, 5-Leads, Body 2.90x2.70mm, Pitch 0.95mm, IPC Low Density)
pins: 1 Vin, 2 GND, 3 SHDN, 4 PWRGD, 5 Vout

## MMA6555KW
designator *
Accelerometers X-AXIS 100G; Manufacturer: Freescale Semiconductor; Manufacturer Part Number: MMA6555KW; Output Type: Digital; Resolution: 12 bit; Sensitivity: 18.2 LSB/g; Acceleration: 105 g; Interface Type: SPI; Sensing Axis: Single; Operating Supply Current: 7 mA; Supply Voltage - Max: 5 V; Supply Voltage - Min: 3.3 V; Supplier 1: Mouser; RoHS: RoHS Compliant By Exemption; Category: Accelerometers; Stock 1: 207; Pricing 1: 1=9.30, 10=8.78, 25=8.26, 100=6.19 (AUD); Package / Case: QFN-16; Packaging: Tube; Series: MMA65xx; Brand: Freescale Semiconductor; Standard Pack Qty: 75; RoHS - Mouser: E; Minimum Order Quantity: 1; Reeling: False; ComponentLink1URL: http://www.mouser.com/ds/2/161/MMA655x-482708.pdf; ComponentLink1Description: http://www.mouser.com/ds/2/161/MMA655x-482708.pdf; Supplier Part Number 1: 841-MMA6555KW
footprint 6 MMA6555KW (QFN, 16-Leads, Body 6.00x6.00mm, Pitch 1.00mm, Thermal Pad 4.00x4.00mm, IPC Low Density)
pins: 1 VregA, 2 Vss, 3 Vreg, 4 Vss, 6 ARM/PCM, 7 TEST/Vpp, 8 MISO, 9 Vcc, 10 SCLK, 11 MOSI, 12 CS, 13 VssA, 14 VssA, 15 PAD

## MS560702BA03-50
designator *
BAROMETRIC PRESSURE SENSOR; Manufacturer: TE Connectivity Measurement Specialties; Manufacturer Part Number: MS560702BA03-50; Pressure Type: Absolute; Operating Pressure: 0.15 PSI ~ 17.4 PSI (1 kPa ~ 120 kPa); Output Type: I²C, SPI; Output: 24 b; Accuracy: ±0.022 PSI (±0.15 kPa); Voltage - Supply: 1.8 V ~ 3.6 V; Port Style: No Port; Maximum Pressure: 87.02 PSI (600 kPa); Supplier 1: Digi-Key; RoHS: RoHS Compliant; Category: Sensors, Transducers; Stock 1: 9112; Pricing 1: 1=5.98, 10=4.664, 25=3.784, 50=3.344, 100=3.256, 250=2.992, 500=2.728, 750=2.64, 1000=2.552 (USD); Port Size: -; Features: -; Termination Style: *; Operating Temperature: -40°C ~ 85°C; Package / Case: *; Supplier Device Package: *; ComponentLink1URL: http://www.meas-spec.com/downloads/MS5607-02BA03.pdf; ComponentLink1Description: http://www.meas-spec.com/downloads/MS5607-02BA03.pdf; Supplier Part Number 1: 223-1198-1-ND
footprint 8 MS560702BA03-50 (LCC, 8-Pins, Body 3.00x4.70mmx1.00mm, Pitch 1.25mm, IPC Low Density)
pins: 1 VDD, 2 PS, 3 GND, 4 CSB, 6 SDO, 7 SDI/SDA, 8 SCLK

## NCP706AMX300TAG
designator U?
IC REG LDO 3V 1A 8XDFN; Manufacturer: ON Semiconductor; Manufacturer Part Number: NCP706AMX300TAG; Regulator Topology: Positive Fixed; Voltage - Dropout (Typical): 0.155V @ 1A; Number of Regulators: 1; Voltage - Input: Up to 5.5V; Current - Limit (Min): 1.1A; Supplier 1: Digi-Key; RoHS: RoHS Compliant; Category: Integrated Circuits (ICs); Stock 1: 3000; Pricing 1: 1=0.41, 10=0.348, 100=0.2601, 500=0.2043, 1000=0.1575 (USD); Packaging: Cut Tape (CT); Voltage - Output: 3V; Current - Output: 1A; Operating Temperature: -40°C ~ 125°C; Mounting Type: Surface Mount; Package / Case: 8-XFDFN Exposed Pad; Supplier Device Package: 8-XDFN (1.6x1.2); ComponentLink1URL: http://www.onsemi.com/pub_link/Collateral/NCP706A-D.PDF; ComponentLink1Description: http://www.onsemi.com/pub_link/Collateral/NCP706A-D.PDF; Supplier Part Number 1: NCP706AMX300TAGOSCT-ND
footprint 25 NCP706AMX300TAG (SON, 8-Leads, Body 1.60x1.20mm, Pitch 0.40mm, Thermal Pad 2.40x1.50mm, IPC Low Density)
pins: 1 OUT, 2 OUT, 4 SNS, 5 GND, 6 EN, 7 VIN, 8 VIN

## PJ-002AH-SMT-TR
designator *
CONN POWER JACK 2.1X5.5MM HI CUR; Manufacturer: CUI Inc.; Manufacturer Part Number: PJ-002AH-SMT-TR; Gender: Male; Plug/Mating Plug Diameter: 2.1mm ID, 5.5mm OD; Number of Positions/Contacts: 2 Conductors, 3 Contacts; Internal Switch(s): Single Switch, Normally Closed; Shielding: Unshielded; Voltage - Rated: 24VDC; Current Rating: 5A; Supplier 1: Digi-Key; RoHS: RoHS Compliant; Category: Connectors, Interconnects; Stock 1: 15720; Pricing 1: 1=1.89, 10=1.469, 100=1.121 (USD); Connector Type: Jack; Mounting Type: Surface Mount; Termination: Solder; Features: -; Color: Black; Contact Material: Copper Alloy; Contact Material - Plating: Nickel; Housing Color: Black; Housing Material: Thermoplastic; Operating Temperature: -25°C ~ 85°C; ComponentLink1URL: http://www.cui.com/product/resource/digikeypdf/pj-002ah-smt.pdf; ComponentLink1Description: http://www.cui.com/product/resource/digikeypdf/pj-002ah-smt.pdf; Supplier Part Number 1: CP-002AHPJCT-ND
footprint PJ-002AH-SMT (Barrel Jack Footprint)
pins: 1 (power), 2 (power), 3 (power)

## POXA1328-003
designator *
pins: 1 ANTENNA_IN, 2 GND, 3 VANT, 4 GND, 5 TXDB, 6 RXDB, 7 NRESET, 8 GND, 9 1PPS, 10 GND, 11 TXDA, 12 RXDA, 13 3D_FIX, 14 VBACKUP, 15 GND, 16 VCC

## S70FL01GSAGMFI011
designator *
IC FLASH 1GBIT 133MHZ 16SOIC; Manufacturer: Spansion; Manufacturer Part Number: S70FL01GSAGMFI011; Memory Type: FLASH - NOR; Memory Size: 1G (128M x 8); Interface: SPI Serial; Voltage - Supply: 2.7 V ~ 3.6 V; Supplier 1: Digi-Key; RoHS: RoHS Compliant; Category: Integrated Circuits (ICs); Stock 1: 1899; Pricing 1: 1=10.35, 10=9.584, 50=9.3154, 100=8.4455 (USD); Packaging: Tube; Format - Memory: FLASH; Speed: 133MHz; Operating Temperature: -40°C ~ 85°C; Package / Case: 16-SOIC (0.295", 7.50mm Width); Supplier Device Package: 16-SOIC; ComponentLink1URL: http://www.spansion.com/Support/Datasheets/S70FL01GS.pdf; ComponentLink1Description: http://www.spansion.com/Support/Datasheets/S70FL01GS.pdf; Supplier Part Number 1: 1274-1092-ND
footprint 15 S70FL01GSAGMFI011 (SOIC, 16-Leads, Body 10.30x7.50mm, Pitch 1.27mm, IPC Low Density)
pins: 1 HOLD#/IO3, 2 VCC, 3 RESET#, 6 CS2#, 7 CS1#, 8 SO/IO1, 9 WP#/IO2, 10 VSS, 14 VIO/RFU, 15 SI/IO0, 16 SCK

## SE2436L
designator U?
ZIGBEE FRONT END MODULE; Manufacturer: Skyworks Solutions Inc.; Manufacturer Part Number: SE2436L; Supplier 1: Digi-Key; RoHS: RoHS Compliant; Category: RF/IF and RFID; Stock 1: 0; Pricing 1: 3000=1.5 (USD); ComponentLink1URL: http://www.skyworksinc.com/uploads/documents/SE2436L_202413C.pdf; ComponentLink1Description: http://www.skyworksinc.com/uploads/documents/SE2436L_202413C.pdf; Supplier Part Number 1: SE2436L-ND
footprint 9 SE2436L (QFN, 24-Leads, Body 4.00x4.00mm, Pitch 0.50mm, Thermal Pad 2.70x2.70mm, IPC Low Density)
pins: 1 ANT_SEL, 2 VB, 3 TRP, 4 TRN, 5 CRX, 6 VCC1, 7 CSD, 8 VCC2, 9 CTX, 10 GND, 11 CPS, 12 VCC3, 17 GND, 18 AUX, 19 ANT2, 20 GND, 21 ANT1, 22 GND, 23 GND

## SF1186G
designator U?  Supplier Part Number 1: 583-1198-6-ND
SAW Filter MuRata; Supplier 1: Digi-Key
footprint sf1186g (SAW RF FILTER 1575.42 MHZ)
pins: 1 IN, 2 OUT, 3 GND, 4 GND

## SI7021-A20-GM
designator U?, comment Si7021
IC TEMP SENSOR RH 3% 6DFN; Manufacturer: Silicon Labs; Manufacturer Part Number: SI7021-A20-GM; Sensor Type: Humidity, Temperature; Humidity Range: 0 ~ 100% RH; Output Type: I²C; Output: 12b; Accuracy: ±3% RH; Response Time: 18S; Voltage - Supply: 1.9 V ~ 3.6 V; Supplier 1: Digi-Key; RoHS: RoHS Compliant; Category: Sensors, Transducers; Stock 1: 755; Pricing 1: 1=3.87, 25=3.5496, 100=3.227, 1000=2.90426 (USD); Sensitivity: -; Mounting Type: Surface Mount; Operating Temperature: -40°C ~ 85°C; ComponentLink1URL: https://www.silabs.com/Support%20Documents/TechnicalDocs/Si7021-A20.pdf; ComponentLink1Description: https://www.silabs.com/Support%20Documents/TechnicalDocs/Si7021-A20.pdf; Supplier Part Number 1: 336-3140-5-ND
footprint 7 Si7021-A20 (SON, 6-Leads, Body 3.00x3.00mm, Pitch 1.00mm, Thermal Pad 2.40x1.50mm, IPC Low Density)
pins: 1 SDA, 2 GND, 3 DNC hidden, 4 DNC hidden, 5 VDD, 6 SCL

## STP36NF06L
designator *
MOSFET N-CH 60V 30A TO-220; Manufacturer: STMicroelectronics; Manufacturer Part Number: STP36NF06L; FET Type: MOSFET N-Channel, Metal Oxide; FET Feature: Standard; Current - Continuous Drain (Id) @ 25°C: 30A (Tc); Rds On (Max) @ Id, Vgs: 40 mOhm @ 15A, 10V; Vgs(th) (Max) @ Id: 2.5V @ 250µA; Gate Charge (Qg) @ Vgs: 17nC @ 5V; Input Capacitance (Ciss) @ Vds: 660pF @ 25V; Power - Max: 70W; Supplier 1: Digi-Key; RoHS: RoHS Compliant; Category: Discrete Semiconductor Products; Stock 1: 547; Pricing 1: 1=1.1, 10=0.851, 100=0.677, 500=0.618, 1000=0.472, 2500=0.419, 10000=0.403, 25000=0.39375 (USD); Packaging: Tube; Drain to Source Voltage (Vdss): 60V; Mounting Type: Through Hole; Package / Case: TO-220-3; Supplier Device Package: TO-220AB; ComponentLink1URL: http://www.st.com/web/en/resource/technical/document/datasheet/CD00003405.pdf; ComponentLink1Description: http://www.st.com/web/en/resource/technical/document/datasheet/CD00003405.pdf; Supplier Part Number 1: 497-7522-5-ND
footprint ST(P/B)36NF06L (D2-PAK, 3-Pads, Body 7.77x8.56mm (max), IPC Medium Density)
pins: 1 G, 2 D, 3 S

## test_point
designator TP  (value not drawn)
footprint TESTPOINT
pins: 1

## TPS79630DCQR
designator U?
IC REG LDO 3V 1A SOT223-6; Manufacturer: Texas Instruments; Manufacturer Part Number: TPS79630DCQR; Regulator Topology: Positive Fixed; Voltage - Dropout (Typical): 0.25V @ 1A; Number of Regulators: 1; Voltage - Input: Up to 5.5V; Current - Limit (Min): 2.4A; Supplier 1: Digi-Key; RoHS: RoHS Compliant; Category: Integrated Circuits (ICs); Stock 1: 4641; Pricing 1: 1=3.13, 10=2.825, 25=2.5308, 100=2.2759, 250=2.02088, 500=1.7658, 750=1.59903, 1000=1.22625 (USD); Packaging: Cut Tape (CT); Voltage - Output: 3V; Current - Output: 1A; Operating Temperature: -40°C ~ 125°C; Mounting Type: Surface Mount; Package / Case: SOT-223-6; Supplier Device Package: SOT-223-6; ComponentLink1URL: http://www.ti.com/lit/ds/symlink/tps796.pdf; ComponentLink1Description: http://www.ti.com/lit/ds/symlink/tps796.pdf; Supplier Part Number 1: 296-13765-1-ND
footprint TPS79630 (TI ultra-low noise LDO, 6 pins)
pins: 1 EN, 2 VIN, 3 GND, 4 OUT, 5 NR, 6 GND